# Altium schematic symbol library 7SEF_4DIGIT.SchLib: 1 symbol
Pins are listed as number, name and electrical type; pins without a type are passive.

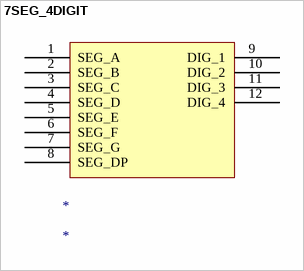
[diagram p0: symbol 7SEG_4DIGIT]

## 7SEG_4DIGIT
designator *
4 Digit 7 Segment Common Cathode Display
footprint PCBComponent_1
pins: 1 SEG_A, 2 SEG_B, 3 SEG_C, 4 SEG_D, 5 SEG_E, 6 SEG_F, 7 SEG_G, 8 SEG_DP, 9 DIG_1, 10 DIG_2, 11 DIG_3, 12 DIG_4